# Altium footprint library Connector_PCBEdge.PcbLib: 101 footprints (part 4 of 7)
Each footprint in its own frame and in the unit in brackets; x right, y up, seen from the top. Pads: shape width x height; smd on the part's side, far side on the other; paste and mask are expansions set on the pad; w line width, h text height; cw(c..) or ccw(c..) is an arc to the next point about the centre after c.
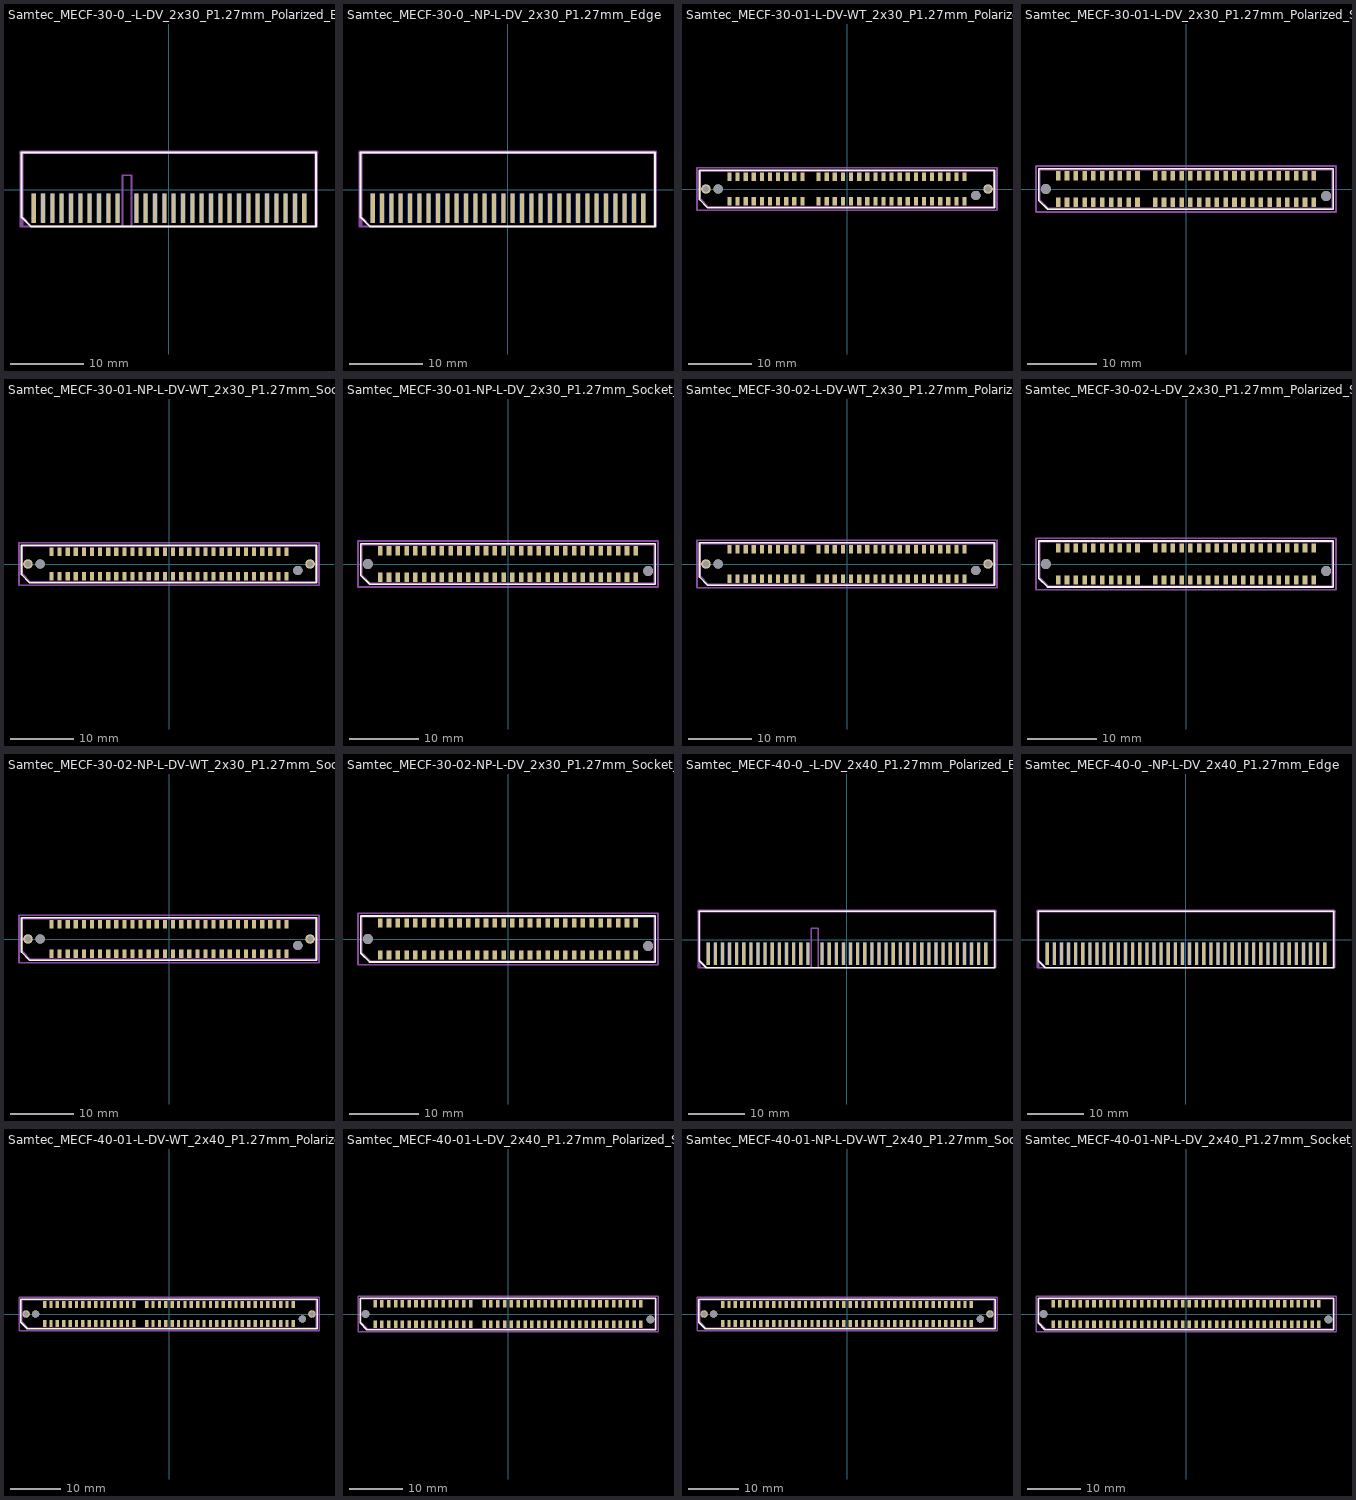
[diagram p3: the footprints below, top view; thin cyan lines are the x and y axes]

## Samtec_MECF-30-0_-L-DV_2x30_P1.27mm_Polarized_Edge [mm]
pads (58):
  rect 0.56x4 smd: 1(-18.405,-2.5) 3(-17.135,-2.5) 5(-15.865,-2.5) 7(-14.595,-2.5) 9(-13.325,-2.5) 11(-12.055,-2.5) 13(-10.785,-2.5) 15(-9.515,-2.5) 17(-8.245,-2.5) 19(-6.975,-2.5) 23(-4.435,-2.5) 25(-3.165,-2.5) 27(-1.895,-2.5) 29(-0.625,-2.5) 31(0.645,-2.5) 33(1.915,-2.5) 35(3.185,-2.5) 37(4.455,-2.5) 39(5.725,-2.5) 41(6.995,-2.5) 43(8.265,-2.5) 45(9.535,-2.5) 47(10.805,-2.5) 49(12.075,-2.5) 51(13.345,-2.5) 53(14.615,-2.5) 55(15.885,-2.5) 57(17.155,-2.5) 59(18.425,-2.5)
  rect 0.56x4 smd far side: 2(-18.405,-2.5) 4(-17.135,-2.5) 6(-15.865,-2.5) 8(-14.595,-2.5) 10(-13.325,-2.5) 12(-12.055,-2.5) 14(-10.785,-2.5) 16(-9.515,-2.5) 18(-8.245,-2.5) 20(-6.975,-2.5) 24(-4.435,-2.5) 26(-3.165,-2.5) 28(-1.895,-2.5) 30(-0.625,-2.5) 32(0.645,-2.5) 34(1.915,-2.5) 36(3.185,-2.5) 38(4.455,-2.5) 40(5.725,-2.5) 42(6.995,-2.5) 44(8.265,-2.5) 46(9.535,-2.5) 48(10.805,-2.5) 50(12.075,-2.5) 52(13.345,-2.5) 54(14.615,-2.5) 56(15.885,-2.5) 58(17.155,-2.5) 60(18.425,-2.5)
F.SilkS:
  lines w0.254: -20.04,-3.73 -18.77,-5 20.04,-5 20.04,5.11 -20.04,5.11 -20.04,-3.73
B.SilkS:
  lines w0.254: -20.04,-5 20.04,-5 20.04,5.11 -20.04,5.11 -20.04,-5
Top Assembly:
  lines w0.254: -19.925,-3.73 -18.655,-5 19.925,-5 19.925,5 -19.925,5 -19.925,-3.73
  text "'.Designator'" at -4.047,1.7 h1
Bottom Assembly:
  lines w0.254: -19.925,-5 19.925,-5 19.925,5 -19.925,5 -19.925,-5
Top Courtyard:
  lines w0.254: -20.18,-5 20.18,-5 20.18,5.25 -20.18,5.25 -20.18,-5
Bottom Courtyard:
  lines w0.254: -20.18,-5 20.18,-5 20.18,5.25 -20.18,5.25 -20.18,-5
Top Designator:
  text ".Designator" at -7.618,-0.383 h1.52
Board Shape:
  lines w0.254: -20.25,5 -19.925,5 -19.925,-5 -6.325,-5 -6.325,2 -5.085,2 -5.085,-5 19.925,-5 19.925,5 20.25,5

## Samtec_MECF-30-0_-NP-L-DV_2x30_P1.27mm_Edge [mm]
pads (60):
  rect 0.56x4 smd: 1(-18.405,-2.5) 3(-17.135,-2.5) 5(-15.865,-2.5) 7(-14.595,-2.5) 9(-13.325,-2.5) 11(-12.055,-2.5) 13(-10.785,-2.5) 15(-9.515,-2.5) 17(-8.245,-2.5) 19(-6.975,-2.5) 21(-5.705,-2.5) 23(-4.435,-2.5) 25(-3.165,-2.5) 27(-1.895,-2.5) 29(-0.625,-2.5) 31(0.645,-2.5) 33(1.915,-2.5) 35(3.185,-2.5) 37(4.455,-2.5) 39(5.725,-2.5) 41(6.995,-2.5) 43(8.265,-2.5) 45(9.535,-2.5) 47(10.805,-2.5) 49(12.075,-2.5) 51(13.345,-2.5) 53(14.615,-2.5) 55(15.885,-2.5) 57(17.155,-2.5) 59(18.425,-2.5)
  rect 0.56x4 smd far side: 2(-18.405,-2.5) 4(-17.135,-2.5) 6(-15.865,-2.5) 8(-14.595,-2.5) 10(-13.325,-2.5) 12(-12.055,-2.5) 14(-10.785,-2.5) 16(-9.515,-2.5) 18(-8.245,-2.5) 20(-6.975,-2.5) 22(-5.705,-2.5) 24(-4.435,-2.5) 26(-3.165,-2.5) 28(-1.895,-2.5) 30(-0.625,-2.5) 32(0.645,-2.5) 34(1.915,-2.5) 36(3.185,-2.5) 38(4.455,-2.5) 40(5.725,-2.5) 42(6.995,-2.5) 44(8.265,-2.5) 46(9.535,-2.5) 48(10.805,-2.5) 50(12.075,-2.5) 52(13.345,-2.5) 54(14.615,-2.5) 56(15.885,-2.5) 58(17.155,-2.5) 60(18.425,-2.5)
F.SilkS:
  lines w0.254: -20.04,-3.73 -18.77,-5 20.04,-5 20.04,5.11 -20.04,5.11 -20.04,-3.73
B.SilkS:
  lines w0.254: -20.04,-5 20.04,-5 20.04,5.11 -20.04,5.11 -20.04,-5
Top Assembly:
  lines w0.254: -19.925,-3.73 -18.655,-5 19.925,-5 19.925,5 -19.925,5 -19.925,-3.73
  text "'.Designator'" at -4.047,1.7 h1
Bottom Assembly:
  lines w0.254: -19.925,-5 19.925,-5 19.925,5 -19.925,5 -19.925,-5
Top Courtyard:
  lines w0.254: -20.18,-5 20.18,-5 20.18,5.25 -20.18,5.25 -20.18,-5
Bottom Courtyard:
  lines w0.254: -20.18,-5 20.18,-5 20.18,5.25 -20.18,5.25 -20.18,-5
Top Designator:
  text ".Designator" at -7.618,-0.383 h1.52
Board Shape:
  lines w0.254: -20.25,5 -19.925,5 -19.925,-5 19.925,-5 19.925,5 20.25,5

## Samtec_MECF-30-01-L-DV-WT_2x30_P1.27mm_Polarized_Socket_Horizontal [mm]
pads (62):
  rect 0.66x1.35 smd: 1(-18.415,-1.905) 2(-18.415,1.905) 3(-17.145,-1.905) 4(-17.145,1.905) 5(-15.875,-1.905) 6(-15.875,1.905) 7(-14.605,-1.905) 8(-14.605,1.905) 9(-13.335,-1.905) 10(-13.335,1.905) 11(-12.065,-1.905) 12(-12.065,1.905) 13(-10.795,-1.905) 14(-10.795,1.905) 15(-9.525,-1.905) 16(-9.525,1.905) 17(-8.255,-1.905) 18(-8.255,1.905) 19(-6.985,-1.905) 20(-6.985,1.905) 23(-4.445,-1.905) 24(-4.445,1.905) 25(-3.175,-1.905) 26(-3.175,1.905) 27(-1.905,-1.905) 28(-1.905,1.905) 29(-0.635,-1.905) 30(-0.635,1.905) 31(0.635,-1.905) 32(0.635,1.905) 33(1.905,-1.905) 34(1.905,1.905) 35(3.175,-1.905) 36(3.175,1.905) 37(4.445,-1.905) 38(4.445,1.905) 39(5.715,-1.905) 40(5.715,1.905) 41(6.985,-1.905) 42(6.985,1.905) 43(8.255,-1.905) 44(8.255,1.905) 45(9.525,-1.905) 46(9.525,1.905) 47(10.795,-1.905) 48(10.795,1.905) 49(12.065,-1.905) 50(12.065,1.905) 51(13.335,-1.905) 52(13.335,1.905) 53(14.605,-1.905) 54(14.605,1.905) 55(15.875,-1.905) 56(15.875,1.905) 57(17.145,-1.905) 58(17.145,1.905) 59(18.415,-1.905) 60(18.415,1.905)
  round 1.5 hole 1: Un1(-22.1,0) Un4(22.1,0)
  round 1.45 hole 1.45: Un2(-20.195,0) Un3(20.195,-1)
F.SilkS:
  lines w0.254: -23.12,-1.65 -21.85,-2.92 23.12,-2.92 23.12,2.92 -23.12,2.92 -23.12,-1.65
Top Assembly:
  lines w0.254: -23.01,-1.535 -21.74,-2.805 23.01,-2.805 23.01,2.805 -23.01,2.805 -23.01,-1.535
  text "'.Designator'" at -4.047,-0.84 h1
Top Courtyard:
  lines w0.254: -23.51,-3.31 23.51,-3.31 23.51,3.31 -23.51,3.31 -23.51,-3.31
Top Designator:
  text ".Designator" at -7.618,-0.508 h1.52

## Samtec_MECF-30-01-L-DV_2x30_P1.27mm_Polarized_Socket_Horizontal [mm]
pads (60):
  rect 0.66x1.35 smd: 1(-18.415,-1.905) 2(-18.415,1.905) 3(-17.145,-1.905) 4(-17.145,1.905) 5(-15.875,-1.905) 6(-15.875,1.905) 7(-14.605,-1.905) 8(-14.605,1.905) 9(-13.335,-1.905) 10(-13.335,1.905) 11(-12.065,-1.905) 12(-12.065,1.905) 13(-10.795,-1.905) 14(-10.795,1.905) 15(-9.525,-1.905) 16(-9.525,1.905) 17(-8.255,-1.905) 18(-8.255,1.905) 19(-6.985,-1.905) 20(-6.985,1.905) 23(-4.445,-1.905) 24(-4.445,1.905) 25(-3.175,-1.905) 26(-3.175,1.905) 27(-1.905,-1.905) 28(-1.905,1.905) 29(-0.635,-1.905) 30(-0.635,1.905) 31(0.635,-1.905) 32(0.635,1.905) 33(1.905,-1.905) 34(1.905,1.905) 35(3.175,-1.905) 36(3.175,1.905) 37(4.445,-1.905) 38(4.445,1.905) 39(5.715,-1.905) 40(5.715,1.905) 41(6.985,-1.905) 42(6.985,1.905) 43(8.255,-1.905) 44(8.255,1.905) 45(9.525,-1.905) 46(9.525,1.905) 47(10.795,-1.905) 48(10.795,1.905) 49(12.065,-1.905) 50(12.065,1.905) 51(13.335,-1.905) 52(13.335,1.905) 53(14.605,-1.905) 54(14.605,1.905) 55(15.875,-1.905) 56(15.875,1.905) 57(17.145,-1.905) 58(17.145,1.905) 59(18.415,-1.905) 60(18.415,1.905)
  round 1.45 hole 1.45: Un1(-20.195,0) Un2(20.195,-1)
F.SilkS:
  lines w0.254: -21.21,-1.65 -19.94,-2.92 21.21,-2.92 21.21,2.92 -21.21,2.92 -21.21,-1.65
Top Assembly:
  lines w0.254: -21.105,-1.535 -19.835,-2.805 21.105,-2.805 21.105,2.805 -21.105,2.805 -21.105,-1.535
  text "'.Designator'" at -4.047,-0.84 h1
Top Courtyard:
  lines w0.254: -21.61,-3.31 21.61,-3.31 21.61,3.31 -21.61,3.31 -21.61,-3.31
Top Designator:
  text ".Designator" at -7.618,-0.508 h1.52

## Samtec_MECF-30-01-NP-L-DV-WT_2x30_P1.27mm_Socket_Horizontal [mm]
pads (64):
  rect 0.66x1.35 smd: 1(-18.415,-1.905) 2(-18.415,1.905) 3(-17.145,-1.905) 4(-17.145,1.905) 5(-15.875,-1.905) 6(-15.875,1.905) 7(-14.605,-1.905) 8(-14.605,1.905) 9(-13.335,-1.905) 10(-13.335,1.905) 11(-12.065,-1.905) 12(-12.065,1.905) 13(-10.795,-1.905) 14(-10.795,1.905) 15(-9.525,-1.905) 16(-9.525,1.905) 17(-8.255,-1.905) 18(-8.255,1.905) 19(-6.985,-1.905) 20(-6.985,1.905) 21(-5.715,-1.905) 22(-5.715,1.905) 23(-4.445,-1.905) 24(-4.445,1.905) 25(-3.175,-1.905) 26(-3.175,1.905) 27(-1.905,-1.905) 28(-1.905,1.905) 29(-0.635,-1.905) 30(-0.635,1.905) 31(0.635,-1.905) 32(0.635,1.905) 33(1.905,-1.905) 34(1.905,1.905) 35(3.175,-1.905) 36(3.175,1.905) 37(4.445,-1.905) 38(4.445,1.905) 39(5.715,-1.905) 40(5.715,1.905) 41(6.985,-1.905) 42(6.985,1.905) 43(8.255,-1.905) 44(8.255,1.905) 45(9.525,-1.905) 46(9.525,1.905) 47(10.795,-1.905) 48(10.795,1.905) 49(12.065,-1.905) 50(12.065,1.905) 51(13.335,-1.905) 52(13.335,1.905) 53(14.605,-1.905) 54(14.605,1.905) 55(15.875,-1.905) 56(15.875,1.905) 57(17.145,-1.905) 58(17.145,1.905) 59(18.415,-1.905) 60(18.415,1.905)
  round 1.5 hole 1: Un1(-22.1,0) Un4(22.1,0)
  round 1.45 hole 1.45: Un2(-20.195,0) Un3(20.195,-1)
F.SilkS:
  lines w0.254: -23.12,-1.65 -21.85,-2.92 23.12,-2.92 23.12,2.92 -23.12,2.92 -23.12,-1.65
Top Assembly:
  lines w0.254: -23.01,-1.535 -21.74,-2.805 23.01,-2.805 23.01,2.805 -23.01,2.805 -23.01,-1.535
  text "'.Designator'" at -4.047,-0.84 h1
Top Courtyard:
  lines w0.254: -23.51,-3.31 23.51,-3.31 23.51,3.31 -23.51,3.31 -23.51,-3.31
Top Designator:
  text ".Designator" at -7.618,-0.508 h1.52

## Samtec_MECF-30-01-NP-L-DV_2x30_P1.27mm_Socket_Horizontal [mm]
pads (62):
  rect 0.66x1.35 smd: 1(-18.415,-1.905) 2(-18.415,1.905) 3(-17.145,-1.905) 4(-17.145,1.905) 5(-15.875,-1.905) 6(-15.875,1.905) 7(-14.605,-1.905) 8(-14.605,1.905) 9(-13.335,-1.905) 10(-13.335,1.905) 11(-12.065,-1.905) 12(-12.065,1.905) 13(-10.795,-1.905) 14(-10.795,1.905) 15(-9.525,-1.905) 16(-9.525,1.905) 17(-8.255,-1.905) 18(-8.255,1.905) 19(-6.985,-1.905) 20(-6.985,1.905) 21(-5.715,-1.905) 22(-5.715,1.905) 23(-4.445,-1.905) 24(-4.445,1.905) 25(-3.175,-1.905) 26(-3.175,1.905) 27(-1.905,-1.905) 28(-1.905,1.905) 29(-0.635,-1.905) 30(-0.635,1.905) 31(0.635,-1.905) 32(0.635,1.905) 33(1.905,-1.905) 34(1.905,1.905) 35(3.175,-1.905) 36(3.175,1.905) 37(4.445,-1.905) 38(4.445,1.905) 39(5.715,-1.905) 40(5.715,1.905) 41(6.985,-1.905) 42(6.985,1.905) 43(8.255,-1.905) 44(8.255,1.905) 45(9.525,-1.905) 46(9.525,1.905) 47(10.795,-1.905) 48(10.795,1.905) 49(12.065,-1.905) 50(12.065,1.905) 51(13.335,-1.905) 52(13.335,1.905) 53(14.605,-1.905) 54(14.605,1.905) 55(15.875,-1.905) 56(15.875,1.905) 57(17.145,-1.905) 58(17.145,1.905) 59(18.415,-1.905) 60(18.415,1.905)
  round 1.45 hole 1.45: Un1(-20.195,0) Un2(20.195,-1)
F.SilkS:
  lines w0.254: -21.21,-1.65 -19.94,-2.92 21.21,-2.92 21.21,2.92 -21.21,2.92 -21.21,-1.65
Top Assembly:
  lines w0.254: -21.105,-1.535 -19.835,-2.805 21.105,-2.805 21.105,2.805 -21.105,2.805 -21.105,-1.535
  text "'.Designator'" at -4.047,-0.84 h1
Top Courtyard:
  lines w0.254: -21.61,-3.31 21.61,-3.31 21.61,3.31 -21.61,3.31 -21.61,-3.31
Top Designator:
  text ".Designator" at -7.618,-0.508 h1.52

## Samtec_MECF-30-02-L-DV-WT_2x30_P1.27mm_Polarized_Socket_Horizontal [mm]
pads (62):
  rect 0.66x1.35 smd: 1(-18.415,-2.3) 2(-18.415,2.3) 3(-17.145,-2.3) 4(-17.145,2.3) 5(-15.875,-2.3) 6(-15.875,2.3) 7(-14.605,-2.3) 8(-14.605,2.3) 9(-13.335,-2.3) 10(-13.335,2.3) 11(-12.065,-2.3) 12(-12.065,2.3) 13(-10.795,-2.3) 14(-10.795,2.3) 15(-9.525,-2.3) 16(-9.525,2.3) 17(-8.255,-2.3) 18(-8.255,2.3) 19(-6.985,-2.3) 20(-6.985,2.3) 23(-4.445,-2.3) 24(-4.445,2.3) 25(-3.175,-2.3) 26(-3.175,2.3) 27(-1.905,-2.3) 28(-1.905,2.3) 29(-0.635,-2.3) 30(-0.635,2.3) 31(0.635,-2.3) 32(0.635,2.3) 33(1.905,-2.3) 34(1.905,2.3) 35(3.175,-2.3) 36(3.175,2.3) 37(4.445,-2.3) 38(4.445,2.3) 39(5.715,-2.3) 40(5.715,2.3) 41(6.985,-2.3) 42(6.985,2.3) 43(8.255,-2.3) 44(8.255,2.3) 45(9.525,-2.3) 46(9.525,2.3) 47(10.795,-2.3) 48(10.795,2.3) 49(12.065,-2.3) 50(12.065,2.3) 51(13.335,-2.3) 52(13.335,2.3) 53(14.605,-2.3) 54(14.605,2.3) 55(15.875,-2.3) 56(15.875,2.3) 57(17.145,-2.3) 58(17.145,2.3) 59(18.415,-2.3) 60(18.415,2.3)
  round 1.5 hole 1: Un1(-22.1,0) Un4(22.1,0)
  round 1.45 hole 1.45: Un2(-20.195,0) Un3(20.195,-1)
F.SilkS:
  lines w0.254: -23.12,-2.04 -21.85,-3.31 23.12,-3.31 23.12,3.31 -23.12,3.31 -23.12,-2.04
Top Assembly:
  lines w0.254: -23.01,-1.93 -21.74,-3.2 23.01,-3.2 23.01,3.2 -23.01,3.2 -23.01,-1.93
  text "'.Designator'" at -4.047,-0.84 h1
Top Courtyard:
  lines w0.254: -23.51,-3.7 23.51,-3.7 23.51,3.7 -23.51,3.7 -23.51,-3.7
Top Designator:
  text ".Designator" at -7.618,-0.508 h1.52

## Samtec_MECF-30-02-L-DV_2x30_P1.27mm_Polarized_Socket_Horizontal [mm]
pads (60):
  rect 0.66x1.35 smd: 1(-18.415,-2.3) 2(-18.415,2.3) 3(-17.145,-2.3) 4(-17.145,2.3) 5(-15.875,-2.3) 6(-15.875,2.3) 7(-14.605,-2.3) 8(-14.605,2.3) 9(-13.335,-2.3) 10(-13.335,2.3) 11(-12.065,-2.3) 12(-12.065,2.3) 13(-10.795,-2.3) 14(-10.795,2.3) 15(-9.525,-2.3) 16(-9.525,2.3) 17(-8.255,-2.3) 18(-8.255,2.3) 19(-6.985,-2.3) 20(-6.985,2.3) 23(-4.445,-2.3) 24(-4.445,2.3) 25(-3.175,-2.3) 26(-3.175,2.3) 27(-1.905,-2.3) 28(-1.905,2.3) 29(-0.635,-2.3) 30(-0.635,2.3) 31(0.635,-2.3) 32(0.635,2.3) 33(1.905,-2.3) 34(1.905,2.3) 35(3.175,-2.3) 36(3.175,2.3) 37(4.445,-2.3) 38(4.445,2.3) 39(5.715,-2.3) 40(5.715,2.3) 41(6.985,-2.3) 42(6.985,2.3) 43(8.255,-2.3) 44(8.255,2.3) 45(9.525,-2.3) 46(9.525,2.3) 47(10.795,-2.3) 48(10.795,2.3) 49(12.065,-2.3) 50(12.065,2.3) 51(13.335,-2.3) 52(13.335,2.3) 53(14.605,-2.3) 54(14.605,2.3) 55(15.875,-2.3) 56(15.875,2.3) 57(17.145,-2.3) 58(17.145,2.3) 59(18.415,-2.3) 60(18.415,2.3)
  round 1.45 hole 1.45: Un1(-20.195,0) Un2(20.195,-1)
F.SilkS:
  lines w0.254: -21.21,-2.04 -19.94,-3.31 21.21,-3.31 21.21,3.31 -21.21,3.31 -21.21,-2.04
Top Assembly:
  lines w0.254: -21.105,-1.93 -19.835,-3.2 21.105,-3.2 21.105,3.2 -21.105,3.2 -21.105,-1.93
  text "'.Designator'" at -4.047,-0.84 h1
Top Courtyard:
  lines w0.254: -21.61,-3.7 21.61,-3.7 21.61,3.7 -21.61,3.7 -21.61,-3.7
Top Designator:
  text ".Designator" at -7.618,-0.508 h1.52

## Samtec_MECF-30-02-NP-L-DV-WT_2x30_P1.27mm_Socket_Horizontal [mm]
pads (64):
  rect 0.66x1.35 smd: 1(-18.415,-2.3) 2(-18.415,2.3) 3(-17.145,-2.3) 4(-17.145,2.3) 5(-15.875,-2.3) 6(-15.875,2.3) 7(-14.605,-2.3) 8(-14.605,2.3) 9(-13.335,-2.3) 10(-13.335,2.3) 11(-12.065,-2.3) 12(-12.065,2.3) 13(-10.795,-2.3) 14(-10.795,2.3) 15(-9.525,-2.3) 16(-9.525,2.3) 17(-8.255,-2.3) 18(-8.255,2.3) 19(-6.985,-2.3) 20(-6.985,2.3) 21(-5.715,-2.3) 22(-5.715,2.3) 23(-4.445,-2.3) 24(-4.445,2.3) 25(-3.175,-2.3) 26(-3.175,2.3) 27(-1.905,-2.3) 28(-1.905,2.3) 29(-0.635,-2.3) 30(-0.635,2.3) 31(0.635,-2.3) 32(0.635,2.3) 33(1.905,-2.3) 34(1.905,2.3) 35(3.175,-2.3) 36(3.175,2.3) 37(4.445,-2.3) 38(4.445,2.3) 39(5.715,-2.3) 40(5.715,2.3) 41(6.985,-2.3) 42(6.985,2.3) 43(8.255,-2.3) 44(8.255,2.3) 45(9.525,-2.3) 46(9.525,2.3) 47(10.795,-2.3) 48(10.795,2.3) 49(12.065,-2.3) 50(12.065,2.3) 51(13.335,-2.3) 52(13.335,2.3) 53(14.605,-2.3) 54(14.605,2.3) 55(15.875,-2.3) 56(15.875,2.3) 57(17.145,-2.3) 58(17.145,2.3) 59(18.415,-2.3) 60(18.415,2.3)
  round 1.5 hole 1: Un1(-22.1,0) Un4(22.1,0)
  round 1.45 hole 1.45: Un2(-20.195,0) Un3(20.195,-1)
F.SilkS:
  lines w0.254: -23.12,-2.04 -21.85,-3.31 23.12,-3.31 23.12,3.31 -23.12,3.31 -23.12,-2.04
Top Assembly:
  lines w0.254: -23.01,-1.93 -21.74,-3.2 23.01,-3.2 23.01,3.2 -23.01,3.2 -23.01,-1.93
  text "'.Designator'" at -4.047,-0.84 h1
Top Courtyard:
  lines w0.254: -23.51,-3.7 23.51,-3.7 23.51,3.7 -23.51,3.7 -23.51,-3.7
Top Designator:
  text ".Designator" at -7.618,-0.508 h1.52

## Samtec_MECF-30-02-NP-L-DV_2x30_P1.27mm_Socket_Horizontal [mm]
pads (62):
  rect 0.66x1.35 smd: 1(-18.415,-2.3) 2(-18.415,2.3) 3(-17.145,-2.3) 4(-17.145,2.3) 5(-15.875,-2.3) 6(-15.875,2.3) 7(-14.605,-2.3) 8(-14.605,2.3) 9(-13.335,-2.3) 10(-13.335,2.3) 11(-12.065,-2.3) 12(-12.065,2.3) 13(-10.795,-2.3) 14(-10.795,2.3) 15(-9.525,-2.3) 16(-9.525,2.3) 17(-8.255,-2.3) 18(-8.255,2.3) 19(-6.985,-2.3) 20(-6.985,2.3) 21(-5.715,-2.3) 22(-5.715,2.3) 23(-4.445,-2.3) 24(-4.445,2.3) 25(-3.175,-2.3) 26(-3.175,2.3) 27(-1.905,-2.3) 28(-1.905,2.3) 29(-0.635,-2.3) 30(-0.635,2.3) 31(0.635,-2.3) 32(0.635,2.3) 33(1.905,-2.3) 34(1.905,2.3) 35(3.175,-2.3) 36(3.175,2.3) 37(4.445,-2.3) 38(4.445,2.3) 39(5.715,-2.3) 40(5.715,2.3) 41(6.985,-2.3) 42(6.985,2.3) 43(8.255,-2.3) 44(8.255,2.3) 45(9.525,-2.3) 46(9.525,2.3) 47(10.795,-2.3) 48(10.795,2.3) 49(12.065,-2.3) 50(12.065,2.3) 51(13.335,-2.3) 52(13.335,2.3) 53(14.605,-2.3) 54(14.605,2.3) 55(15.875,-2.3) 56(15.875,2.3) 57(17.145,-2.3) 58(17.145,2.3) 59(18.415,-2.3) 60(18.415,2.3)
  round 1.45 hole 1.45: Un1(-20.195,0) Un2(20.195,-1)
F.SilkS:
  lines w0.254: -21.21,-2.04 -19.94,-3.31 21.21,-3.31 21.21,3.31 -21.21,3.31 -21.21,-2.04
Top Assembly:
  lines w0.254: -21.105,-1.93 -19.835,-3.2 21.105,-3.2 21.105,3.2 -21.105,3.2 -21.105,-1.93
  text "'.Designator'" at -4.047,-0.84 h1
Top Courtyard:
  lines w0.254: -21.61,-3.7 21.61,-3.7 21.61,3.7 -21.61,3.7 -21.61,-3.7
Top Designator:
  text ".Designator" at -7.618,-0.508 h1.52

## Samtec_MECF-40-0_-L-DV_2x40_P1.27mm_Polarized_Edge [mm]
pads (78):
  rect 0.56x4 smd: 1(-24.755,-2.5) 3(-23.485,-2.5) 5(-22.215,-2.5) 7(-20.945,-2.5) 9(-19.675,-2.5) 11(-18.405,-2.5) 13(-17.135,-2.5) 15(-15.865,-2.5) 17(-14.595,-2.5) 19(-13.325,-2.5) 21(-12.055,-2.5) 23(-10.785,-2.5) 25(-9.515,-2.5) 27(-8.245,-2.5) 29(-6.975,-2.5) 33(-4.435,-2.5) 35(-3.165,-2.5) 37(-1.895,-2.5) 39(-0.625,-2.5) 41(0.645,-2.5) 43(1.915,-2.5) 45(3.185,-2.5) 47(4.455,-2.5) 49(5.725,-2.5) 51(6.995,-2.5) 53(8.265,-2.5) 55(9.535,-2.5) 57(10.805,-2.5) 59(12.075,-2.5) 61(13.345,-2.5) 63(14.615,-2.5) 65(15.885,-2.5) 67(17.155,-2.5) 69(18.425,-2.5) 71(19.695,-2.5) 73(20.965,-2.5) 75(22.235,-2.5) 77(23.505,-2.5) 79(24.775,-2.5)
  rect 0.56x4 smd far side: 2(-24.755,-2.5) 4(-23.485,-2.5) 6(-22.215,-2.5) 8(-20.945,-2.5) 10(-19.675,-2.5) 12(-18.405,-2.5) 14(-17.135,-2.5) 16(-15.865,-2.5) 18(-14.595,-2.5) 20(-13.325,-2.5) 22(-12.055,-2.5) 24(-10.785,-2.5) 26(-9.515,-2.5) 28(-8.245,-2.5) 30(-6.975,-2.5) 34(-4.435,-2.5) 36(-3.165,-2.5) 38(-1.895,-2.5) 40(-0.625,-2.5) 42(0.645,-2.5) 44(1.915,-2.5) 46(3.185,-2.5) 48(4.455,-2.5) 50(5.725,-2.5) 52(6.995,-2.5) 54(8.265,-2.5) 56(9.535,-2.5) 58(10.805,-2.5) 60(12.075,-2.5) 62(13.345,-2.5) 64(14.615,-2.5) 66(15.885,-2.5) 68(17.155,-2.5) 70(18.425,-2.5) 72(19.695,-2.5) 74(20.965,-2.5) 76(22.235,-2.5) 78(23.505,-2.5) 80(24.775,-2.5)
F.SilkS:
  lines w0.254: -26.38,-3.73 -25.11,-5 26.38,-5 26.38,5.11 -26.38,5.11 -26.38,-3.73
B.SilkS:
  lines w0.254: -26.38,-5 26.38,-5 26.38,5.11 -26.38,5.11 -26.38,-5
Top Assembly:
  lines w0.254: -26.275,-3.73 -25.005,-5 26.275,-5 26.275,5 -26.275,5 -26.275,-3.73
  text "'.Designator'" at -4.047,1.7 h1
Bottom Assembly:
  lines w0.254: -26.275,-5 26.275,-5 26.275,5 -26.275,5 -26.275,-5
Top Courtyard:
  lines w0.254: -26.52,-5 26.52,-5 26.52,5.25 -26.52,5.25 -26.52,-5
Bottom Courtyard:
  lines w0.254: -26.52,-5 26.52,-5 26.52,5.25 -26.52,5.25 -26.52,-5
Top Designator:
  text ".Designator" at -7.618,-0.383 h1.52
Board Shape:
  lines w0.254: -26.75,5 -26.275,5 -26.275,-5 -6.325,-5 -6.325,2 -5.085,2 -5.085,-5 26.275,-5 26.275,5 26.75,5

## Samtec_MECF-40-0_-NP-L-DV_2x40_P1.27mm_Edge [mm]
pads (80):
  rect 0.56x4 smd: 1(-24.755,-2.5) 3(-23.485,-2.5) 5(-22.215,-2.5) 7(-20.945,-2.5) 9(-19.675,-2.5) 11(-18.405,-2.5) 13(-17.135,-2.5) 15(-15.865,-2.5) 17(-14.595,-2.5) 19(-13.325,-2.5) 21(-12.055,-2.5) 23(-10.785,-2.5) 25(-9.515,-2.5) 27(-8.245,-2.5) 29(-6.975,-2.5) 31(-5.705,-2.5) 33(-4.435,-2.5) 35(-3.165,-2.5) 37(-1.895,-2.5) 39(-0.625,-2.5) 41(0.645,-2.5) 43(1.915,-2.5) 45(3.185,-2.5) 47(4.455,-2.5) 49(5.725,-2.5) 51(6.995,-2.5) 53(8.265,-2.5) 55(9.535,-2.5) 57(10.805,-2.5) 59(12.075,-2.5) 61(13.345,-2.5) 63(14.615,-2.5) 65(15.885,-2.5) 67(17.155,-2.5) 69(18.425,-2.5) 71(19.695,-2.5) 73(20.965,-2.5) 75(22.235,-2.5) 77(23.505,-2.5) 79(24.775,-2.5)
  rect 0.56x4 smd far side: 2(-24.755,-2.5) 4(-23.485,-2.5) 6(-22.215,-2.5) 8(-20.945,-2.5) 10(-19.675,-2.5) 12(-18.405,-2.5) 14(-17.135,-2.5) 16(-15.865,-2.5) 18(-14.595,-2.5) 20(-13.325,-2.5) 22(-12.055,-2.5) 24(-10.785,-2.5) 26(-9.515,-2.5) 28(-8.245,-2.5) 30(-6.975,-2.5) 32(-5.705,-2.5) 34(-4.435,-2.5) 36(-3.165,-2.5) 38(-1.895,-2.5) 40(-0.625,-2.5) 42(0.645,-2.5) 44(1.915,-2.5) 46(3.185,-2.5) 48(4.455,-2.5) 50(5.725,-2.5) 52(6.995,-2.5) 54(8.265,-2.5) 56(9.535,-2.5) 58(10.805,-2.5) 60(12.075,-2.5) 62(13.345,-2.5) 64(14.615,-2.5) 66(15.885,-2.5) 68(17.155,-2.5) 70(18.425,-2.5) 72(19.695,-2.5) 74(20.965,-2.5) 76(22.235,-2.5) 78(23.505,-2.5) 80(24.775,-2.5)
F.SilkS:
  lines w0.254: -26.38,-3.73 -25.11,-5 26.38,-5 26.38,5.11 -26.38,5.11 -26.38,-3.73
B.SilkS:
  lines w0.254: -26.38,-5 26.38,-5 26.38,5.11 -26.38,5.11 -26.38,-5
Top Assembly:
  lines w0.254: -26.275,-3.73 -25.005,-5 26.275,-5 26.275,5 -26.275,5 -26.275,-3.73
  text "'.Designator'" at -4.047,1.7 h1
Bottom Assembly:
  lines w0.254: -26.275,-5 26.275,-5 26.275,5 -26.275,5 -26.275,-5
Top Courtyard:
  lines w0.254: -26.52,-5 26.52,-5 26.52,5.25 -26.52,5.25 -26.52,-5
Bottom Courtyard:
  lines w0.254: -26.52,-5 26.52,-5 26.52,5.25 -26.52,5.25 -26.52,-5
Top Designator:
  text ".Designator" at -7.618,-0.383 h1.52
Board Shape:
  lines w0.254: -26.75,5 -26.275,5 -26.275,-5 26.275,-5 26.275,5 26.75,5

## Samtec_MECF-40-01-L-DV-WT_2x40_P1.27mm_Polarized_Socket_Horizontal [mm]
pads (82):
  rect 0.66x1.35 smd: 1(-24.765,-1.905) 2(-24.765,1.905) 3(-23.495,-1.905) 4(-23.495,1.905) 5(-22.225,-1.905) 6(-22.225,1.905) 7(-20.955,-1.905) 8(-20.955,1.905) 9(-19.685,-1.905) 10(-19.685,1.905) 11(-18.415,-1.905) 12(-18.415,1.905) 13(-17.145,-1.905) 14(-17.145,1.905) 15(-15.875,-1.905) 16(-15.875,1.905) 17(-14.605,-1.905) 18(-14.605,1.905) 19(-13.335,-1.905) 20(-13.335,1.905) 21(-12.065,-1.905) 22(-12.065,1.905) 23(-10.795,-1.905) 24(-10.795,1.905) 25(-9.525,-1.905) 26(-9.525,1.905) 27(-8.255,-1.905) 28(-8.255,1.905) 29(-6.985,-1.905) 30(-6.985,1.905) 33(-4.445,-1.905) 34(-4.445,1.905) 35(-3.175,-1.905) 36(-3.175,1.905) 37(-1.905,-1.905) 38(-1.905,1.905) 39(-0.635,-1.905) 40(-0.635,1.905) 41(0.635,-1.905) 42(0.635,1.905) 43(1.905,-1.905) 44(1.905,1.905) 45(3.175,-1.905) 46(3.175,1.905) 47(4.445,-1.905) 48(4.445,1.905) 49(5.715,-1.905) 50(5.715,1.905) 51(6.985,-1.905) 52(6.985,1.905) 53(8.255,-1.905) 54(8.255,1.905) 55(9.525,-1.905) 56(9.525,1.905) 57(10.795,-1.905) 58(10.795,1.905) 59(12.065,-1.905) 60(12.065,1.905) 61(13.335,-1.905) 62(13.335,1.905) 63(14.605,-1.905) 64(14.605,1.905) 65(15.875,-1.905) 66(15.875,1.905) 67(17.145,-1.905) 68(17.145,1.905) 69(18.415,-1.905) 70(18.415,1.905) 71(19.685,-1.905) 72(19.685,1.905) 73(20.955,-1.905) 74(20.955,1.905) 75(22.225,-1.905) 76(22.225,1.905) 77(23.495,-1.905) 78(23.495,1.905) 79(24.765,-1.905) 80(24.765,1.905)
  round 1.5 hole 1: Un1(-28.45,0) Un4(28.45,0)
  round 1.45 hole 1.45: Un2(-26.545,0) Un3(26.545,-1)
F.SilkS:
  lines w0.254: -29.47,-1.65 -28.2,-2.92 29.47,-2.92 29.47,2.92 -29.47,2.92 -29.47,-1.65
Top Assembly:
  lines w0.254: -29.36,-1.535 -28.09,-2.805 29.36,-2.805 29.36,2.805 -29.36,2.805 -29.36,-1.535
  text "'.Designator'" at -4.047,-0.84 h1
Top Courtyard:
  lines w0.254: -29.86,-3.31 29.86,-3.31 29.86,3.31 -29.86,3.31 -29.86,-3.31
Top Designator:
  text ".Designator" at -7.618,-0.508 h1.52

## Samtec_MECF-40-01-L-DV_2x40_P1.27mm_Polarized_Socket_Horizontal [mm]
pads (80):
  rect 0.66x1.35 smd: 1(-24.765,-1.905) 2(-24.765,1.905) 3(-23.495,-1.905) 4(-23.495,1.905) 5(-22.225,-1.905) 6(-22.225,1.905) 7(-20.955,-1.905) 8(-20.955,1.905) 9(-19.685,-1.905) 10(-19.685,1.905) 11(-18.415,-1.905) 12(-18.415,1.905) 13(-17.145,-1.905) 14(-17.145,1.905) 15(-15.875,-1.905) 16(-15.875,1.905) 17(-14.605,-1.905) 18(-14.605,1.905) 19(-13.335,-1.905) 20(-13.335,1.905) 21(-12.065,-1.905) 22(-12.065,1.905) 23(-10.795,-1.905) 24(-10.795,1.905) 25(-9.525,-1.905) 26(-9.525,1.905) 27(-8.255,-1.905) 28(-8.255,1.905) 29(-6.985,-1.905) 30(-6.985,1.905) 33(-4.445,-1.905) 34(-4.445,1.905) 35(-3.175,-1.905) 36(-3.175,1.905) 37(-1.905,-1.905) 38(-1.905,1.905) 39(-0.635,-1.905) 40(-0.635,1.905) 41(0.635,-1.905) 42(0.635,1.905) 43(1.905,-1.905) 44(1.905,1.905) 45(3.175,-1.905) 46(3.175,1.905) 47(4.445,-1.905) 48(4.445,1.905) 49(5.715,-1.905) 50(5.715,1.905) 51(6.985,-1.905) 52(6.985,1.905) 53(8.255,-1.905) 54(8.255,1.905) 55(9.525,-1.905) 56(9.525,1.905) 57(10.795,-1.905) 58(10.795,1.905) 59(12.065,-1.905) 60(12.065,1.905) 61(13.335,-1.905) 62(13.335,1.905) 63(14.605,-1.905) 64(14.605,1.905) 65(15.875,-1.905) 66(15.875,1.905) 67(17.145,-1.905) 68(17.145,1.905) 69(18.415,-1.905) 70(18.415,1.905) 71(19.685,-1.905) 72(19.685,1.905) 73(20.955,-1.905) 74(20.955,1.905) 75(22.225,-1.905) 76(22.225,1.905) 77(23.495,-1.905) 78(23.495,1.905) 79(24.765,-1.905) 80(24.765,1.905)
  round 1.45 hole 1.45: Un1(-26.545,0) Un2(26.545,-1)
F.SilkS:
  lines w0.254: -27.57,-1.65 -26.3,-2.92 27.57,-2.92 27.57,2.92 -27.57,2.92 -27.57,-1.65
Top Assembly:
  lines w0.254: -27.455,-1.535 -26.185,-2.805 27.455,-2.805 27.455,2.805 -27.455,2.805 -27.455,-1.535
  text "'.Designator'" at -4.047,-0.84 h1
Top Courtyard:
  lines w0.254: -27.96,-3.31 27.96,-3.31 27.96,3.31 -27.96,3.31 -27.96,-3.31
Top Designator:
  text ".Designator" at -7.618,-0.508 h1.52

## Samtec_MECF-40-01-NP-L-DV-WT_2x40_P1.27mm_Socket_Horizontal [mm]
pads (84):
  rect 0.66x1.35 smd: 1(-24.765,-1.905) 2(-24.765,1.905) 3(-23.495,-1.905) 4(-23.495,1.905) 5(-22.225,-1.905) 6(-22.225,1.905) 7(-20.955,-1.905) 8(-20.955,1.905) 9(-19.685,-1.905) 10(-19.685,1.905) 11(-18.415,-1.905) 12(-18.415,1.905) 13(-17.145,-1.905) 14(-17.145,1.905) 15(-15.875,-1.905) 16(-15.875,1.905) 17(-14.605,-1.905) 18(-14.605,1.905) 19(-13.335,-1.905) 20(-13.335,1.905) 21(-12.065,-1.905) 22(-12.065,1.905) 23(-10.795,-1.905) 24(-10.795,1.905) 25(-9.525,-1.905) 26(-9.525,1.905) 27(-8.255,-1.905) 28(-8.255,1.905) 29(-6.985,-1.905) 30(-6.985,1.905) 31(-5.715,-1.905) 32(-5.715,1.905) 33(-4.445,-1.905) 34(-4.445,1.905) 35(-3.175,-1.905) 36(-3.175,1.905) 37(-1.905,-1.905) 38(-1.905,1.905) 39(-0.635,-1.905) 40(-0.635,1.905) 41(0.635,-1.905) 42(0.635,1.905) 43(1.905,-1.905) 44(1.905,1.905) 45(3.175,-1.905) 46(3.175,1.905) 47(4.445,-1.905) 48(4.445,1.905) 49(5.715,-1.905) 50(5.715,1.905) 51(6.985,-1.905) 52(6.985,1.905) 53(8.255,-1.905) 54(8.255,1.905) 55(9.525,-1.905) 56(9.525,1.905) 57(10.795,-1.905) 58(10.795,1.905) 59(12.065,-1.905) 60(12.065,1.905) 61(13.335,-1.905) 62(13.335,1.905) 63(14.605,-1.905) 64(14.605,1.905) 65(15.875,-1.905) 66(15.875,1.905) 67(17.145,-1.905) 68(17.145,1.905) 69(18.415,-1.905) 70(18.415,1.905) 71(19.685,-1.905) 72(19.685,1.905) 73(20.955,-1.905) 74(20.955,1.905) 75(22.225,-1.905) 76(22.225,1.905) 77(23.495,-1.905) 78(23.495,1.905) 79(24.765,-1.905) 80(24.765,1.905)
  round 1.5 hole 1: Un1(-28.45,0) Un4(28.45,0)
  round 1.45 hole 1.45: Un2(-26.545,0) Un3(26.545,-1)
F.SilkS:
  lines w0.254: -29.47,-1.65 -28.2,-2.92 29.47,-2.92 29.47,2.92 -29.47,2.92 -29.47,-1.65
Top Assembly:
  lines w0.254: -29.36,-1.535 -28.09,-2.805 29.36,-2.805 29.36,2.805 -29.36,2.805 -29.36,-1.535
  text "'.Designator'" at -4.047,-0.84 h1
Top Courtyard:
  lines w0.254: -29.86,-3.31 29.86,-3.31 29.86,3.31 -29.86,3.31 -29.86,-3.31
Top Designator:
  text ".Designator" at -7.618,-0.508 h1.52

## Samtec_MECF-40-01-NP-L-DV_2x40_P1.27mm_Socket_Horizontal [mm]
pads (82):
  rect 0.66x1.35 smd: 1(-24.765,-1.905) 2(-24.765,1.905) 3(-23.495,-1.905) 4(-23.495,1.905) 5(-22.225,-1.905) 6(-22.225,1.905) 7(-20.955,-1.905) 8(-20.955,1.905) 9(-19.685,-1.905) 10(-19.685,1.905) 11(-18.415,-1.905) 12(-18.415,1.905) 13(-17.145,-1.905) 14(-17.145,1.905) 15(-15.875,-1.905) 16(-15.875,1.905) 17(-14.605,-1.905) 18(-14.605,1.905) 19(-13.335,-1.905) 20(-13.335,1.905) 21(-12.065,-1.905) 22(-12.065,1.905) 23(-10.795,-1.905) 24(-10.795,1.905) 25(-9.525,-1.905) 26(-9.525,1.905) 27(-8.255,-1.905) 28(-8.255,1.905) 29(-6.985,-1.905) 30(-6.985,1.905) 31(-5.715,-1.905) 32(-5.715,1.905) 33(-4.445,-1.905) 34(-4.445,1.905) 35(-3.175,-1.905) 36(-3.175,1.905) 37(-1.905,-1.905) 38(-1.905,1.905) 39(-0.635,-1.905) 40(-0.635,1.905) 41(0.635,-1.905) 42(0.635,1.905) 43(1.905,-1.905) 44(1.905,1.905) 45(3.175,-1.905) 46(3.175,1.905) 47(4.445,-1.905) 48(4.445,1.905) 49(5.715,-1.905) 50(5.715,1.905) 51(6.985,-1.905) 52(6.985,1.905) 53(8.255,-1.905) 54(8.255,1.905) 55(9.525,-1.905) 56(9.525,1.905) 57(10.795,-1.905) 58(10.795,1.905) 59(12.065,-1.905) 60(12.065,1.905) 61(13.335,-1.905) 62(13.335,1.905) 63(14.605,-1.905) 64(14.605,1.905) 65(15.875,-1.905) 66(15.875,1.905) 67(17.145,-1.905) 68(17.145,1.905) 69(18.415,-1.905) 70(18.415,1.905) 71(19.685,-1.905) 72(19.685,1.905) 73(20.955,-1.905) 74(20.955,1.905) 75(22.225,-1.905) 76(22.225,1.905) 77(23.495,-1.905) 78(23.495,1.905) 79(24.765,-1.905) 80(24.765,1.905)
  round 1.45 hole 1.45: Un1(-26.545,0) Un2(26.545,-1)
F.SilkS:
  lines w0.254: -27.57,-1.65 -26.3,-2.92 27.57,-2.92 27.57,2.92 -27.57,2.92 -27.57,-1.65
Top Assembly:
  lines w0.254: -27.455,-1.535 -26.185,-2.805 27.455,-2.805 27.455,2.805 -27.455,2.805 -27.455,-1.535
  text "'.Designator'" at -4.047,-0.84 h1
Top Courtyard:
  lines w0.254: -27.96,-3.31 27.96,-3.31 27.96,3.31 -27.96,3.31 -27.96,-3.31
Top Designator:
  text ".Designator" at -7.618,-0.508 h1.52